# EAGLE library part IC74HC112 (library chuong)
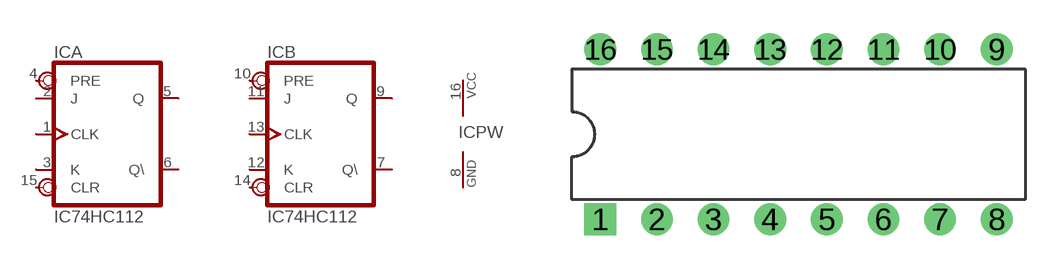
[diagram p58: symbol with the pads of DIL-16; footprint DIL-16]

Designator prefix IC; gates A=IC74HC112 B=IC74HC112 PW=POWER

## IC74HC112  [DIL-16]
1  A:CLK  in
2  A:J  in
3  A:K  in
4  A:PRE  in
5  A:Q  out
6  A:Q\  out
7  B:Q\  out
8  PW:GND  pwr
9  B:Q  out
10  B:PRE  in
11  B:J  in
12  B:K  in
13  B:CLK  in
14  B:CLR  in
15  A:CLR  in
16  PW:VCC  pwr

## Footprint DIL-16 (pad centres in mm)
drill 0.61 pad 1.422 square: 1 -8.89,-3.81
drill 0.61 pad 1.422 round: 2 -6.35,-3.81; 3 -3.81,-3.81; 4 -1.27,-3.81; 5 1.27,-3.81; 6 3.81,-3.81; 7 6.35,-3.81; 8 8.89,-3.81; 9 8.89,3.81; 10 6.35,3.81; 11 3.81,3.81; 12 1.27,3.81; 13 -1.27,3.81; 14 -3.81,3.81; 15 -6.35,3.81; 16 -8.89,3.81